# Altium schematic symbol library NET+50-QIT-3.Schlib: 1 symbol
Pins are listed as number, name and electrical type; pins without a type are passive.

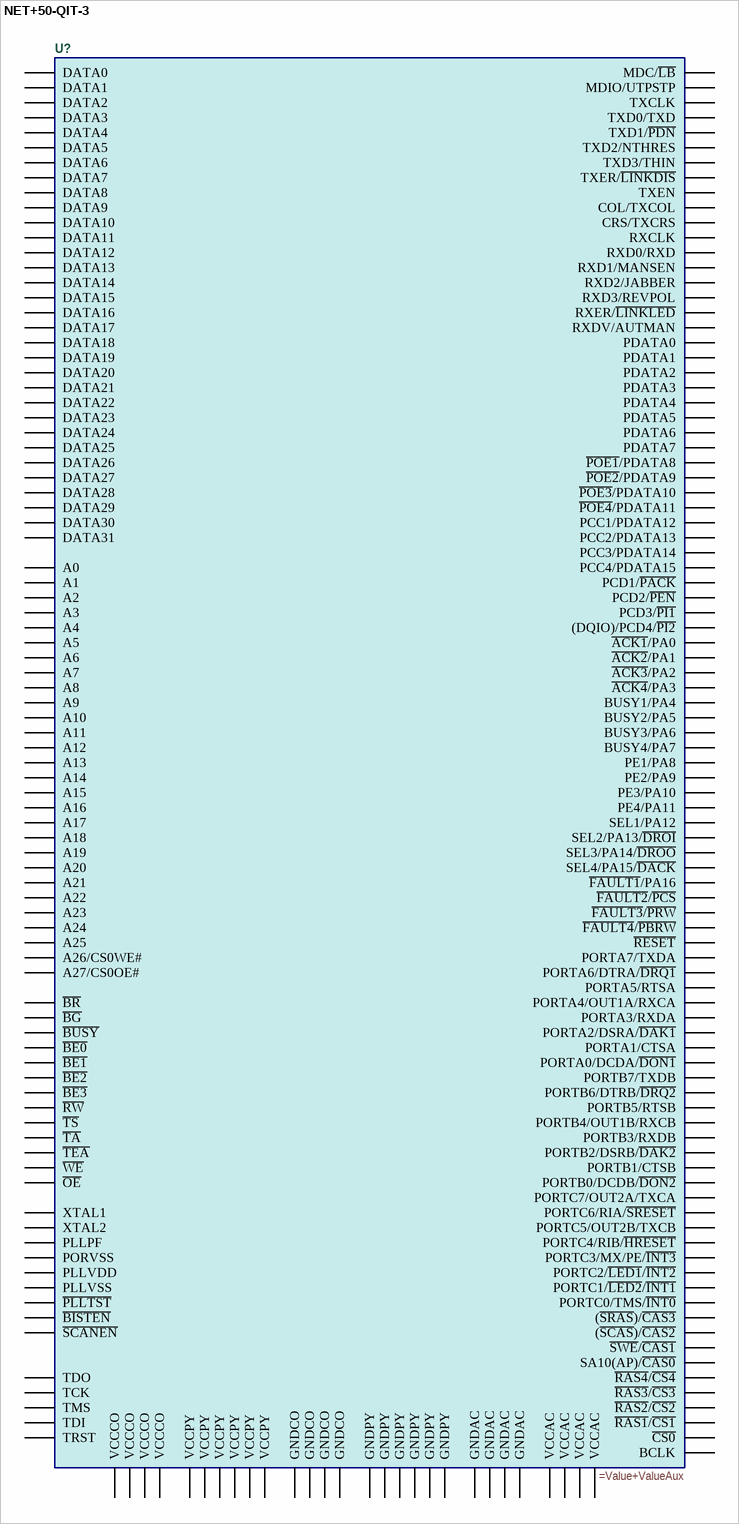
[diagram p0: symbol NET+50-QIT-3]

## NET+50-QIT-3
designator U?
=Description
pins: 1 GNDAC, 2 ~{POE1}/PDATA8, 3 ~{POE2}/PDATA9, 4 ~{POE3}/PDATA10, 5 ~{POE4}/PDATA11, 6 PCC1/PDATA12, 7 PCC2/PDATA13, 8 PCC3/PDATA14, 9 PCC4/PDATA15, 10 PCD2/~{PEN}, 11 PCD3/~{PI1}, 12 (DQIO)/PCD4/~{PI2}, 13 ~{ACK1}/PA0, 14 ~{ACK2}/PA1, 15 ~{ACK3}/PA2, 16 ~{ACK4}/PA3, 17 BUSY1/PA4, 18 BUSY2/PA5, 19 BUSY3/PA6, 20 BUSY4/PA7, 21 PE1/PA8, 22 PE2/PA9, 23 PE3/PA10, 24 PE4/PA11, 25 SEL1/PA12, 26 VCCCO, 27 GNDCO, 28 SEL2/PA13/~{DROI}, 29 SEL3/PA14/~{DROO}, 30 SEL4/PA15/~{DACK}, 31 ~{FAULT1}/PA16, 32 ~{FAULT4}/~{PBRW}, 33 ~{FAULT3}/~{PRW}, 34 ~{FAULT2}/~{PCS}, 35 PCD1/~{PACK}, 36 VCCPY, 37 GNDPY, 38 PORTA7/TXDA, 39 PORTA6/DTRA/~{DRQ1}, 40 PORTA5/RTSA, 41 PORTA4/OUT1A/RXCA, 42 PORTA3/RXDA, 43 PORTA2/DSRA/~{DAK1}, 44 PORTA1/CTSA, 45 PORTA0/DCDA/~{DON1}, 46 PORTB7/TXDB, 47 PORTB6/DTRB/~{DRQ2}, 48 PORTB5/RTSB, 49 PORTB4/OUT1B/RXCB, 50 PORTB3/RXDB, 51 PORTB2/DSRB/~{DAK2}, 52 VCCPY, 53 GNDPY, 54 PORTB1/CTSB, 55 PORTB0/DCDB/~{DON2}, 56 PORTC7/OUT2A/TXCA, 57 PORTC6/RIA/~{SRESET}, 58 PORTC5/OUT2B/TXCB, 59 PORTC4/RIB/~{HRESET}, 60 PORTC3/MX/PE/~{INT3}, 61 PORTC2/~{LED1}/~{INT2}, 62 PORTC1/~{LED2}/~{INT1}, 63 PORTC0/TMS/~{INT0}, 64 VCCPY, 65 GNDPY, 66 RXDV/AUTMAN, 67 RXER/~{LINKLED}, 68 RXD3/REVPOL, 69 RXD2/JABBER, 70 RXD1/MANSEN, 71 RXD0/RXD, 72 RXCLK, 73 CRS/TXCRS, 74 COL/TXCOL, 75 TXEN, 76 TXER/~{LINKDIS}, 77 TXD3/THIN, 78 VCCCO, 79 GNDCO, 80 TXD2/NTHRES, 81 TXD1/~{PDN}, 82 TXD0/TXD, 83 TXCLK, 84 MDIO/UTPSTP, 85 MDC/~{LB}, 86 VCCAC, 87 GNDAC, 88 A0, 89 A1, 90 A2, 91 A3, 92 A4, 93 A5, 94 A6, 95 A7, 96 A8, 97 A9, 98 A10, 99 A11, 100 A12, 101 A13, 102 A14, 103 A15, 104 VCCPY, 105 GNDPY, 106 A16, 107 A17, 108 A18, 109 A19, 110 A20, 111 A21, 112 A22, 113 A23, 114 A24, 115 A25, 116 A26/CS0WE#, 117 A27/CS0OE#, 118 VCCAC, 119 GNDAC, 120 ~{BE0}, 121 ~{BE1}, 122 ~{BE2}, 123 ~{BE3}, 124 DATA0, 125 DATA1, 126 DATA2, 127 DATA3, 128 DATA4, 129 DATA5, 130 VCCCO, 131 GNDCO, 132 DATA6, 133 DATA7, 134 DATA8, 135 DATA9, 136 DATA10, 137 DATA11, 138 DATA12, 139 DATA13, 140 DATA14, 141 DATA15, 142 DATA16, 143 VCCPY, 144 GNDPY, 145 DATA17, 146 DATA18, 147 DATA19, 148 DATA20, 149 DATA21, 150 DATA22, 151 DATA23, 152 DATA24, 153 DATA25, 154 DATA26, 155 DATA27, 156 VCCAC, 157 GNDAC, 158 ~{RESET}, 159 DATA28, 160 DATA29, 161 DATA30, 162 DATA31, 163 ~{RW}, 164 ~{TS}, 165 ~{TA}, 166 ~{TEA}, 167 ~{BR}, 168 ~{BG}, 169 ~{BUSY}, 170 TDO, 171 TDI, 172 TMS, 173 TCK, 174 TRST, 175 VCCCO, 176 GNDCO, 177 ~{PLLTST}, 178 XTAL1, 179 XTAL2, 180 PLLVSS, 181 PLLPF, 182 PLLVDD, 183 PORVSS, 184 ~{BISTEN}, 185 ~{SCANEN}, 186 VCCPY, 187 BCLK, 188 GNDPY, 189 ~{OE}, 190 ~{WE}, 191 ~{CS0}, 192 ~{RAS1}/~{CS1}, 193 ~{RAS2}/~{CS2}, 194 ~{RAS3}/~{CS3}, 195 ~{RAS4}/~{CS4}, 196 SA10(AP)/~{CAS0}, 197 ~{SWE}/~{CAS1}, 198 (~{SCAS})/~{CAS2}, 199 (~{SRAS})/~{CAS3}, 200 PDATA0, 201 PDATA1, 202 PDATA2, 203 PDATA3, 204 PDATA4, 205 PDATA5, 206 PDATA6, 207 PDATA7, 208 VCCAC